# Altium schematic symbol library SMPS_Module.SchLib: 1 symbol
Pins are listed as number, name and electrical type; pins without a type are passive.

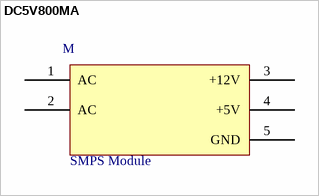
[diagram p0: symbol DC5V800MA]

## DC5V800MA
designator M  value SMPS Module  (hidden comment: *)
footprint DC5V800MA
pins: 1 AC, 2 AC, 3 +12V, 4 +5V, 5 GND